# EAGLE library part CON-14P-TABS (library Connectors)
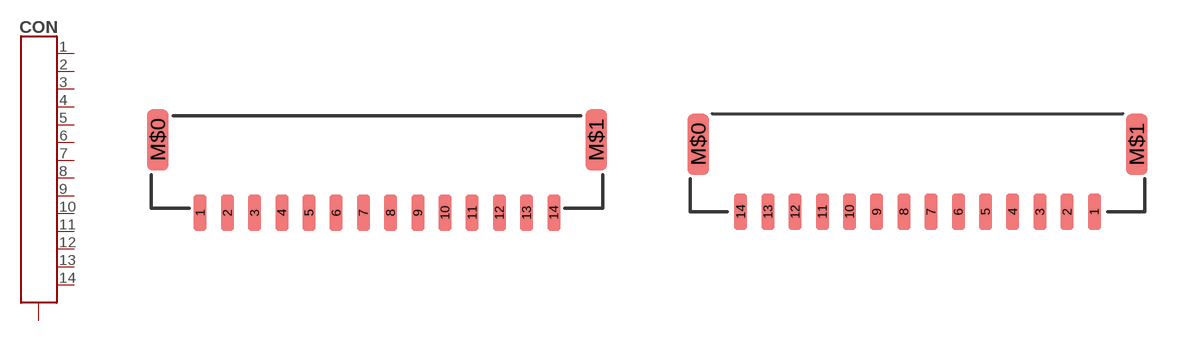
[diagram p12: symbol with the pads of BM14B-GHS-TBT; footprints BM14B-GHS-TBT, SM14B-GHS-TB]

Designator prefix CON

## CON-14P-TABS-JST-GH-TOP (ENTRY: TOP; LCSC#: C265384; MANF: JST Sales America; MANF#: BM14B-GHS-TBT(LF)(SN))  [BM14B-GHS-TBT]
1  1  pas
2  2  pas
3  3  pas
4  4  pas
5  5  pas
6  6  pas
7  7  pas
8  8  pas
9  9  pas
10  10  pas
11  11  pas
12  12  pas
13  13  pas
14  14  pas
M$0  G1  pas
M$1  G1  pas

## CON-14P-TABS-JST-GH-SIDE (ENTRY: SIDE; LCSC#: C265343; MANF: JST Sales America; MANF#: SM14B-GHS-TB(LF)(SN))  [SM14B-GHS-TB]
Pads as for BM14B-GHS-TBT

## Footprint BM14B-GHS-TBT (pad centres in mm)
smd 0.6 x 1.7: 1 -8.125,-2.9; 2 -6.875,-2.9; 3 -5.625,-2.9; 4 -4.375,-2.9; 5 -3.125,-2.9; 6 -1.875,-2.9; 7 -0.625,-2.9; 8 0.625,-2.9; 9 1.875,-2.9; 10 3.125,-2.9; 11 4.375,-2.9; 12 5.625,-2.9; 13 6.875,-2.9; 14 8.125,-2.9
smd 1 x 2.8: M$0 -10.075,0.45; M$1 10.075,0.45

## Footprint SM14B-GHS-TB (pad centres in mm)
http://www.molex.com/pdm_docs/sd/5023860270_sd.pdf
smd 0.6 x 1.7: 1 8.125,-2.91; 2 6.875,-2.91; 3 5.625,-2.91; 4 4.375,-2.91; 5 3.125,-2.91; 6 1.875,-2.91; 7 0.625,-2.91; 8 -0.625,-2.91; 9 -1.875,-2.91; 10 -3.125,-2.91; 11 -4.375,-2.91; 12 -5.625,-2.91; 13 -6.875,-2.91; 14 -8.125,-2.91
smd 1 x 2.8: M$0 -10.075,0.19; M$1 10.075,0.19